# EAGLE library part ET60S (library ET60S)
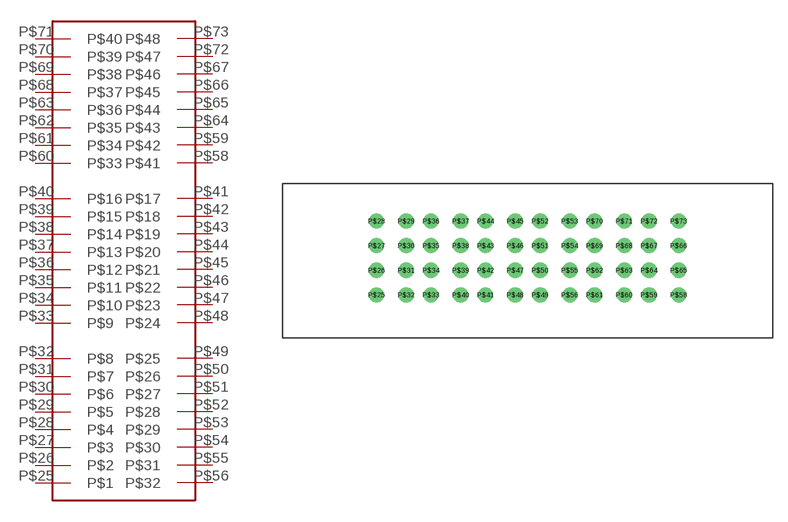
[diagram p0: symbol with the pads of ET60S; footprint ET60S]

Designator prefix -

## ET60S  [ET60S]
P$25  P$1
P$26  P$2
P$27  P$3
P$28  P$4
P$29  P$5
P$30  P$6
P$31  P$7
P$32  P$8
P$33  P$9
P$34  P$10
P$35  P$11
P$36  P$12
P$37  P$13
P$38  P$14
P$39  P$15
P$40  P$16
P$41  P$17
P$42  P$18
P$43  P$19
P$44  P$20
P$45  P$21
P$46  P$22
P$47  P$23
P$48  P$24
P$49  P$25
P$50  P$26
P$51  P$27
P$52  P$28
P$53  P$29
P$54  P$30
P$55  P$31
P$56  P$32
P$58  P$41
P$59  P$42
P$60  P$33
P$61  P$34
P$62  P$35
P$63  P$36
P$64  P$43
P$65  P$44
P$66  P$45
P$67  P$46
P$68  P$37
P$69  P$38
P$70  P$39
P$71  P$40
P$72  P$47
P$73  P$48

## Footprint ET60S (pad centres in mm)
drill 1.021: P$25 -15.278,-3.721; P$26 -15.278,-1.232; P$27 -15.278,1.257; P$28 -15.278,3.747; P$29 -12.281,3.747; P$30 -12.281,1.257; P$31 -12.281,-1.232; P$32 -12.281,-3.721; P$33 -9.766,-3.721; P$34 -9.766,-1.232; P$35 -9.766,1.257; P$36 -9.766,3.747; P$37 -6.769,3.747; P$38 -6.769,1.257; P$39 -6.769,-1.232; P$40 -6.769,-3.721; P$41 -4.255,-3.721; P$42 -4.255,-1.232; P$43 -4.255,1.257; P$44 -4.255,3.747; P$45 -1.257,3.747; P$46 -1.257,1.257; P$47 -1.257,-1.232; P$48 -1.257,-3.721; P$49 1.257,-3.721; P$50 1.257,-1.232; P$51 1.257,1.257; P$52 1.257,3.747; P$53 4.255,3.747; P$54 4.255,1.257; P$55 4.255,-1.232; P$56 4.255,-3.721; P$58 15.278,-3.721; P$59 12.281,-3.721; P$60 9.766,-3.721; P$61 6.769,-3.721; P$62 6.769,-1.232; P$63 9.766,-1.232; P$64 12.281,-1.232; P$65 15.278,-1.232; P$66 15.278,1.257; P$67 12.281,1.257; P$68 9.766,1.257; P$69 6.769,1.257; P$70 6.769,3.747; P$71 9.766,3.747; P$72 12.281,3.747; P$73 15.278,3.747